# Altium footprint library Resistor.PcbLib: 9 footprints
Each footprint in its own frame and in the unit in brackets; x right, y up, seen from the top. Pads: shape width x height; smd on the part's side, far side on the other; paste and mask are expansions set on the pad; w line width, h text height; cw(c..) or ccw(c..) is an arc to the next point about the centre after c.
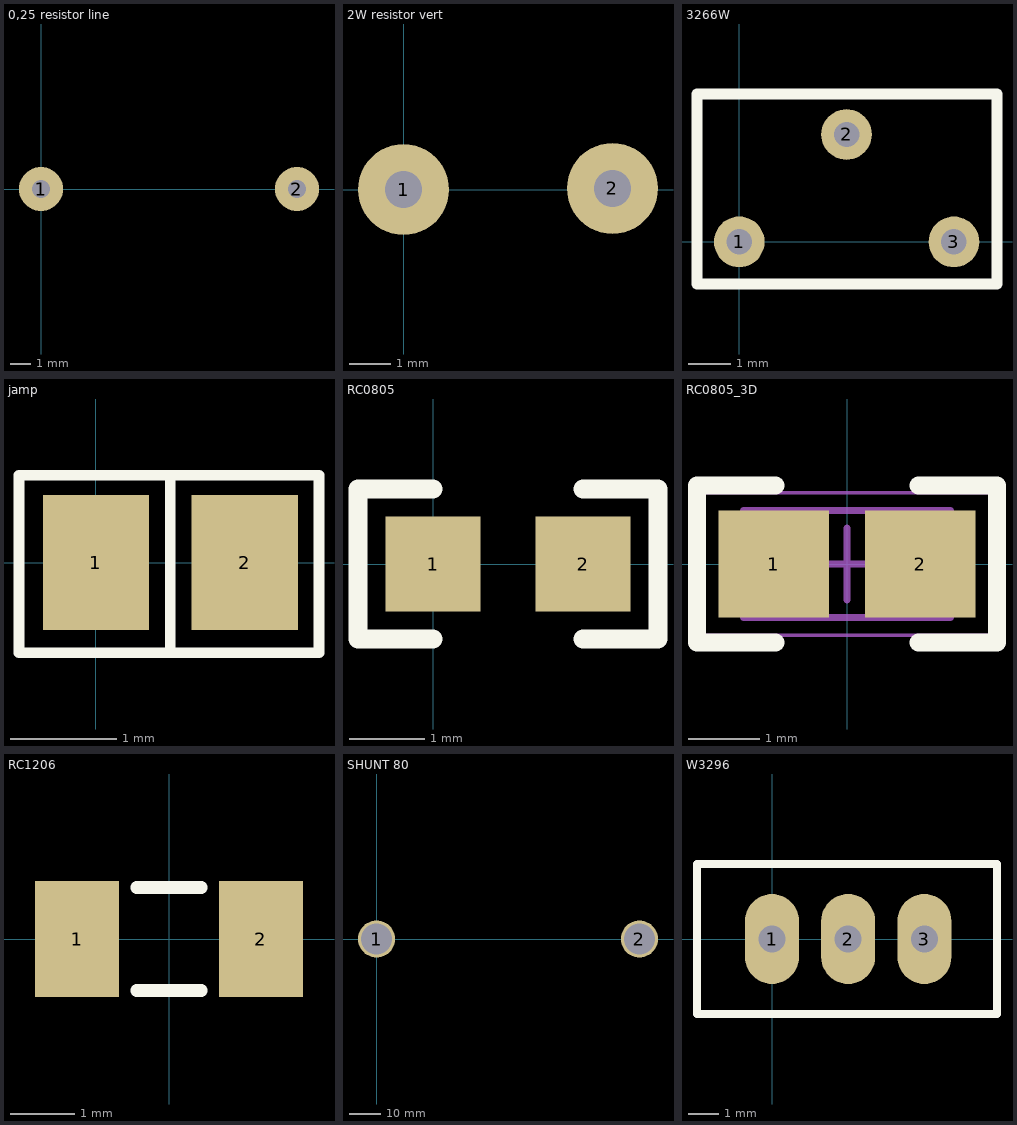
[diagram p0: the footprints below, top view; thin cyan lines are the x and y axes]

## 0,25 resistor line [mm]
pads (2):
  round 2.2 hole 0.9: 1(0,0) 2(12.8,0)
3D body "Resistor line 0.25W.STEP": height 7.37, standoff -2, extent -0.3,-1.875 13.15,1.875

## 2W resistor vert [mm]
pads (2):
  round 2.2 hole 0.9: 1(0,0) 2(5.05,0.025)
3D body "2W CARBON FILM RESISTOR.step": height 23.6, standoff -2, extent -2.6,-2.6 5.4,2.6

## 3266W [mm] "Variable resistor"
pads (3):
  round 1.2 hole 0.6: 1(0,0) 2(2.54,2.54) 3(5.08,0)
Top Overlay:
  lines w0.254: -1,-1 6.1,-1 6.1,3.5 -1,3.5 -1,-1
3D body "User Library-POT-3266W.step": height 9.06, standoff -1.1, extent -0.762,-1.016 5.944,3.48

## jamp [mm]
pads (2):
  rect 1x1.27 smd: 1(0,0) 2(1.4,0)
Top Overlay:
  lines w0.1: 0.7,-0.85 0.7,0.825 ; -0.725,-0.85 -0.725,0.825 2.025,0.825 2.1,0.825 2.1,-0.85 -0.725,-0.85

## RC0805 [mm]
pads (2):
  rect 1.27x1.27 smd: 1(0,0) 2(2,0)
Top Overlay:
  lines w0.254: 0,-1 -1,-1 -1,1 0,1 ; 2,-1 3,-1 3,1 2,1

## RC0805_3D [mm]
height 0.7
pads (2):
  rect 1.55x1.5 smd: 1(-1.025,0) 2(1.025,0)
Top Overlay:
  lines w0.254: -1,-1.1 -2.1,-1.1 -2.1,1.1 ; 1,-1.1 2.1,-1.1 2.1,1.1 1,1.1 ; -2.1,1.1 -1,1.1 -2.1,1.1
Mechanical 13:
  lines w0.1: -1.45,-0.75 1.45,-0.75 1.45,0.75 -1.45,0.75 -1.45,-0.75
Mechanical 15:
  lines w0.05: -2.05,-1 2.05,-1 2.05,1 -2.05,1 -2.05,-1
  lines w0.1: -0.5,0 0.5,0 ; 0,-0.5 0,0.5
3D body "User Library-R0805.step": height 0.44, standoff -0.03, extent -1,-0.626 1,0.626

## RC1206 [mm]
height 0.6
pads (2):
  rect 1.3x1.8 smd: 1(-1.425,0) 2(1.425,0)
Top Overlay:
  lines w0.2: -0.5,-0.8 0.5,-0.8 ; -0.5,0.8 0.5,0.8
3D body "RC1206.step": height 0.6, standoff 0, extent -1.6,-0.85 1.6,0.85

## SHUNT 80 [mm]
pads (2):
  round 12 hole 10: 1(0,0) 2(85,0)
3D body "User Library-N0045110008011 - SHUNT 80.step": height 16.5, standoff -9.5, extent -8,-9.4 93,9.6

## W3296 [mm]
pads (3):
  oval 1.8x3 hole 0.9: 1(0,0) 2(2.54,0) 3(5.08,0)
Top Overlay:
  lines w0.254: -2.5,-2.5 7.5,-2.5 7.5,2.5 -2.5,2.5 -2.5,-2.5
3D body "3296W.STEP": height 11.55, standoff -1.6, extent -2.265,-2.4 7.265,2.4